# Altium footprint library МЦТР.00010528.00.001.PcbLib: 38 footprints (part 3 of 3)
Each footprint in its own frame and in the unit in brackets; x right, y up, seen from the top. Pads: shape width x height; smd on the part's side, far side on the other; paste and mask are expansions set on the pad; w line width, h text height; cw(c..) or ccw(c..) is an arc to the next point about the centre after c.
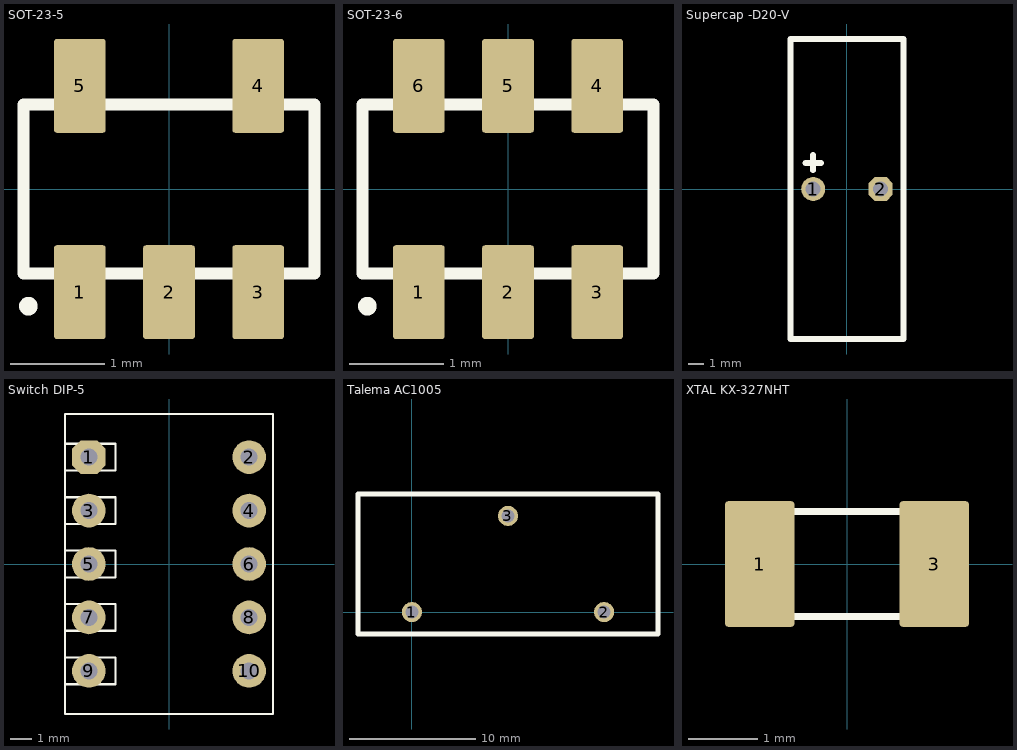
[diagram p2: the footprints below, top view; thin cyan lines are the x and y axes]

## SOT-23-5 [mm]
pads (5):
  rrect10% 0.55x1 smd: 1(-0.95,-1.1) 2(0,-1.1) 3(0.95,-1.1) 4(0.95,1.1) 5(-0.95,1.1)
Top Overlay:
  circle w0.1: c-1.5,-1.25 r0.05
  lines w0.127: -1.55,-0.9 1.55,-0.9 1.55,0.9 -1.55,0.9 -1.55,-0.9
3D body "SOT23-5.step": height 1.1, standoff 0, extent -1.5,-1.25 1.5,1.25

## SOT-23-6 [mm]
height 8
pads (6):
  rrect10% 0.55x1 smd: 1(-0.95,-1.1) 2(0,-1.1) 3(0.95,-1.1) 4(0.95,1.1) 5(0,1.1) 6(-0.95,1.1)
Top Overlay:
  circle w0.1: c-1.5,-1.25 r0.05
  lines w0.127: -1.55,-0.9 -1.55,0.9 1.55,0.9 1.55,-0.9 -1.55,-0.9
3D body "SOT23-6.step": height 1.1, standoff 0, extent -1.5,-1.25 1.5,1.25

## Supercap -D20-V [mm] "SuperCapacitor D=20 mm Vertical Orientation"
height 8
pads (2):
  round 1.6 hole 1: 1(-2.25,0)
  oct 1.6x1.6 hole 1: 2(2.25,0)
Top Overlay:
  lines w0.4: -2.75,1.75 -1.75,1.75 ; -2.25,1.25 -2.25,2.25 ; -3.75,-10 3.75,-10 3.75,10 -3.75,10 -3.75,-10
3D body "ADCV-S05R5S--3DModel-STEP-368357.STEP": height 19.35, standoff -5.55, extent -2.733,-9.096 2.667,9.604

## Switch DIP-5 [mm] "DIP-Switch 5 Pins"
height 8
pads (10):
  oct 1.6x1.6 hole 0.8: 1(-3.81,5.08)
  round 1.6 hole 0.8: 2(3.81,5.08) 3(-3.81,2.54) 4(3.81,2.54) 5(-3.81,0) 6(3.81,0) 7(-3.81,-2.54) 8(3.81,-2.54) 9(-3.81,-5.08) 10(3.81,-5.08)
Top Overlay:
  lines w0.1: -4.95,-5.715 -2.54,-5.715 -2.54,-4.445 -4.95,-4.445 ; -4.95,-3.175 -2.54,-3.175 -2.54,-1.905 -4.95,-1.905 ; -4.95,-0.635 -2.54,-0.635 -2.54,0.635 -4.95,0.635 ; -4.95,1.905 -2.54,1.905 -2.54,3.175 -4.95,3.175 ; -4.95,4.445 -2.54,4.445 -2.54,5.715 -4.95,5.715 ; -4.95,-7.13 -4.95,7.13 4.95,7.13 4.95,-7.13 -4.95,-7.13
3D body "DS1040-05RT.step": height 9.2, standoff -3.85, extent -6.4,-7.1 5,7.06

## Talema AC1005 [mm] "Current Transformer Talema AC1005"
pads (3):
  round 1.6 hole 1: 1(0,0) 2(15.24,0) 3(7.62,7.62)
Top Overlay:
  lines w0.4: -4.28,-1.75 19.52,-1.75 19.52,9.37 -4.28,9.37 -4.28,-1.75
3D body "Talema AC1005.step": height 23.8, standoff -5, extent -4.28,-1.75 19.52,9.37

## XTAL KX-327NHT [mm]
height 8
pads (2):
  rrect10% 1x1.8 smd: 1(-1.25,0) 3(1.25,0)
Top Overlay:
  lines w0.1: -1.6,-0.75 1.6,-0.75 1.6,0.75 -1.6,0.75 -1.6,-0.75
3D body "KX-327NHT-1.STEP": height 0.71, standoff 0, extent -1.6,-0.75 1.6,0.75